# EAGLE library part W25Q256JVEIQ_TR (library W25Q256JVEIQ_TR)
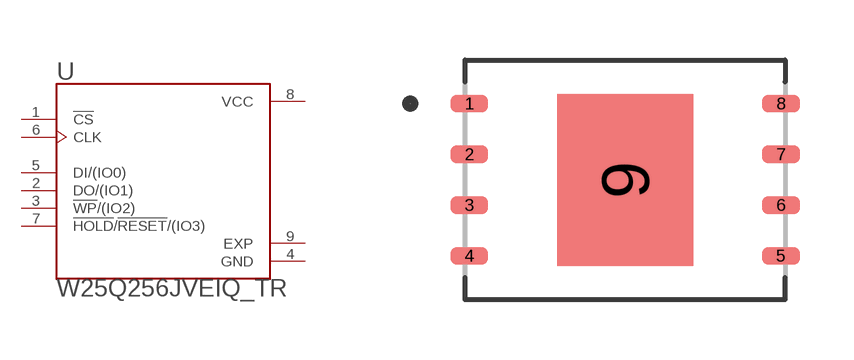
[diagram p0: symbol with the pads of SON127P600X800X80-9N; footprint SON127P600X800X80-9N]

Designator prefix U

## W25Q256JVEIQ_TR (MANUFACTURER: Winbond; MAXIMUM_PACKAGE_HEIGHT: 0.8 mm; PARTREV: G; SNAPEDA_PN: W25Q256JVEIQ TR; STANDARD: IPC 7351B)  [SON127P600X800X80-9N]
1  !CS  in
2  DO/(IO1)
3  !WP!/(IO2)
4  GND  pwr
5  DI/(IO0)
6  CLK  in
7  !HOLD!/!RESET!/(IO3)
8  VCC  pwr
9  EXP  pas

## Footprint SON127P600X800X80-9N (pad centres in mm)
smd 0.94 x 0.44: 1 -3.895,1.905; 2 -3.895,0.635; 3 -3.895,-0.635; 4 -3.895,-1.905; 5 3.895,-1.905; 6 3.895,-0.635; 7 3.895,0.635; 8 3.895,1.905
smd 3.4 x 4.3: 9 0,0